# EAGLE library part SUBDEV_HEADER (library WASP)
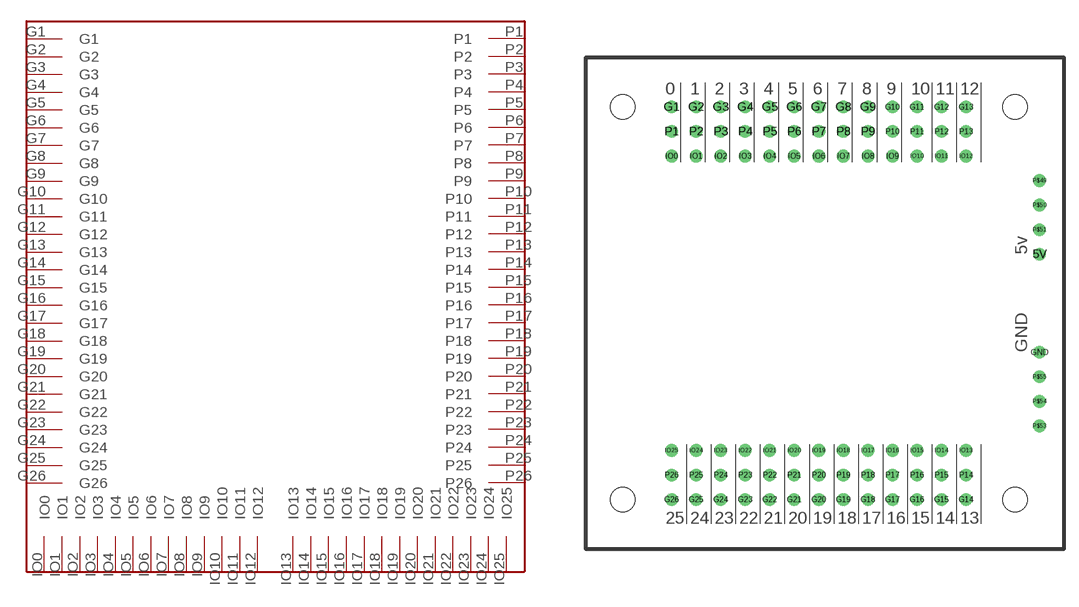
[diagram p2: symbol with the pads of SUBDEV; footprint SUBDEV]

Designator prefix -

## SUBDEV_HEADER  [SUBDEV]
G1  G1
G2  G2
G3  G3
G4  G4
G5  G5
G6  G6
G7  G7
G8  G8
G9  G9
G10  G10
G11  G11
G12  G12
G13  G13
G14  G14
G15  G15
G16  G16
G17  G17
G18  G18
G19  G19
G20  G20
G21  G21
G22  G22
G23  G23
G24  G24
G25  G25
G26  G26
IO0  IO0
IO1  IO1
IO2  IO2
IO3  IO3
IO4  IO4
IO5  IO5
IO6  IO6
IO7  IO7
IO8  IO8
IO9  IO9
IO10  IO10
IO11  IO11
IO12  IO12
IO13  IO13
IO14  IO14
IO15  IO15
IO16  IO16
IO17  IO17
IO18  IO18
IO19  IO19
IO20  IO20
IO21  IO21
IO22  IO22
IO23  IO23
IO24  IO24
IO25  IO25
P1  P1
P2  P2
P3  P3
P4  P4
P5  P5
P6  P6
P7  P7
P8  P8
P9  P9
P10  P10
P11  P11
P12  P12
P13  P13
P14  P14
P15  P15
P16  P16
P17  P17
P18  P18
P19  P19
P20  P20
P21  P21
P22  P22
P23  P23
P24  P24
P25  P25
P26  P26

## Footprint SUBDEV (pad centres in mm)
drill 0.8 round: 5V 43.18,25.4; G1 5.08,40.64; G2 7.62,40.64; G3 10.16,40.64; G4 12.7,40.64; G5 15.24,40.64; G6 17.78,40.64; G7 20.32,40.64; G8 22.86,40.64; G9 25.4,40.64; G10 27.94,40.64; G11 30.48,40.64; G12 33.02,40.64; G13 35.56,40.64; G14 35.56,0; G15 33.02,0; G16 30.48,0; G17 27.94,0; G18 25.4,0; G19 22.86,0; G20 20.32,0; G21 17.78,0; G22 15.24,0; G23 12.7,0; G24 10.16,0; G25 7.62,0; G26 5.08,0; GND 43.18,15.24; IO0 5.08,35.56; IO1 7.62,35.56; IO2 10.16,35.56; IO3 12.7,35.56; IO4 15.24,35.56; IO5 17.78,35.56; IO6 20.32,35.56; IO7 22.86,35.56; IO8 25.4,35.56; IO9 27.94,35.56; IO10 30.48,35.56; IO11 33.02,35.56; IO12 35.56,35.56; IO13 35.56,5.08; IO14 33.02,5.08; IO15 30.48,5.08; IO16 27.94,5.08; IO17 25.4,5.08; IO18 22.86,5.08; IO19 20.32,5.08; IO20 17.78,5.08; IO21 15.24,5.08; IO22 12.7,5.08; IO23 10.16,5.08; IO24 7.62,5.08; IO25 5.08,5.08; P1 5.08,38.1; P2 7.62,38.1; P3 10.16,38.1; P4 12.7,38.1; P5 15.24,38.1; P6 17.78,38.1; P7 20.32,38.1; P8 22.86,38.1; P9 25.4,38.1; P10 27.94,38.1; P11 30.48,38.1; P12 33.02,38.1; P13 35.56,38.1; P14 35.56,2.54; P15 33.02,2.54; P16 30.48,2.54; P17 27.94,2.54; P18 25.4,2.54; P19 22.86,2.54; P20 20.32,2.54; P21 17.78,2.54; P22 15.24,2.54; P23 12.7,2.54; P24 10.16,2.54; P25 7.62,2.54; P26 5.08,2.54; P$49 43.18,33.02; P$50 43.18,30.48; P$51 43.18,27.94; P$53 43.18,7.62; P$54 43.18,10.16; P$55 43.18,12.7
hole 2.54 at 0,40.64
hole 2.54 at 40.64,40.64
hole 2.54 at 40.64,0
hole 2.54 at 0,0